# Altium footprint library 2020-03-17_20-39-12.PcbLib: 3 footprints
Each footprint in its own frame and in the unit in brackets; x right, y up, seen from the top. Pads: shape width x height; smd on the part's side, far side on the other; paste and mask are expansions set on the pad; w line width, h text height; cw(c..) or ccw(c..) is an arc to the next point about the centre after c.
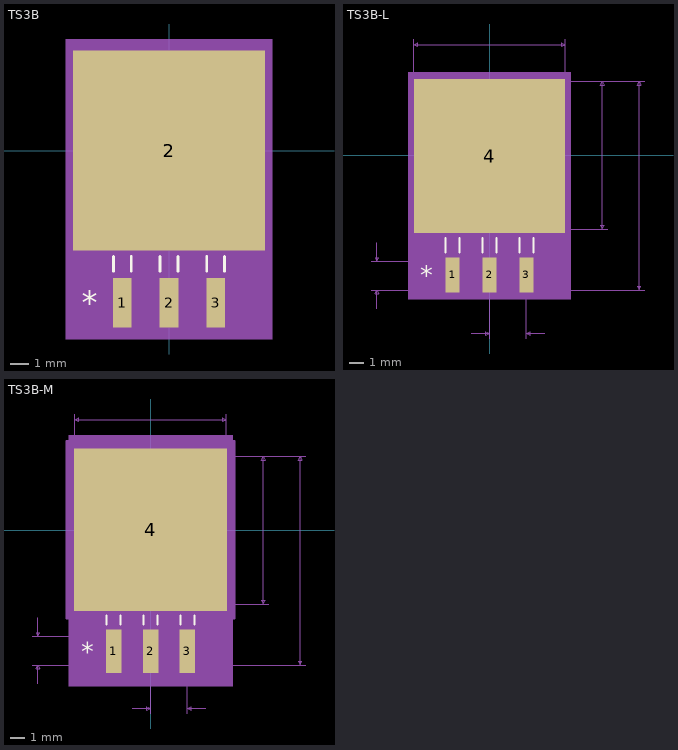
[diagram p0: the footprints below, top view; thin cyan lines are the x and y axes]

## TS3B [mil]
pads (4):
  rect 40x106 smd: 1(-100,-326) 2(0,-326) 3(100,-326)
  rect 412x428 smd: 2(0,0)
Top Overlay:
  lines w6: -119,-259 -119,-227.1 ; -81,-259 -81,-227.1 ; -19,-259 -19,-227.1 ; 19,-259 19,-227.1 ; 81,-259 81,-227.1 ; 119,-259 119,-227.1
  text "*" at -187.5,-351 h50
Mechanical 5:
  region: -221,239 221,239 221,-404 -221,-404
Mechanical 13:
  lines w1: -205,-200 205,-200 205,200 -205,200 -205,-200 ; -119,-365 -119,-200 -81,-200 -81,-365 -119,-365 ; -19,-365 -19,-200 19,-200 19,-365 -19,-365 ; 81,-365 81,-200 119,-200 119,-365 81,-365
  text "*" at -112.5,-215 h50
Mechanical 15:
  region: -130,-224 -216,-224 -216,224 216,224 216,-224 130,-224 130,-389 -130,-389
  lines w6: -216,-224 -216,224 216,224 216,-224 130,-224 130,-389 -130,-389 -130,-224 -216,-224
3D body: height 10, standoff 0, extent 0,0 10,10

## TS3B-L [mil]
pads (4):
  rect 38x94 smd paste+0 mask+0: 1(-100,-324) 2(0,-324) 3(100,-324)
  rect 410x416 smd paste+0 mask+0: 4(0,-2)
Top Overlay:
  lines w6: -119,-263 -119,-224 ; -81,-263 -81,-224 ; -19,-263 -19,-224 ; 19,-263 19,-224 ; 81,-263 81,-224 ; 119,-263 119,-224
  text "*" at -187.5,-349 h50
Mechanical 5:
  region: -220,225 220,225 220,-390 -220,-390
Mechanical 7:
  lines w1: -320,-365 0,-365 420,-365 ; -320,-287 0,-287 ; -305,-415 -305,-365 ; -305,-237 -305,-287 ; -205,0 -205,315 ; -50,-482.5 0,-482.5 ; 0,-497.5 0,-282.5 ; 0,-200 320,-200 ; 100,-497.5 100,-282.5 ; 150,-482.5 100,-482.5 ; 205,0 205,315 ; 320,200 0,200 420,200 ; -305,-365 -310,-375 -300,-375 -305,-365 ; -305,-287 -310,-277 -300,-277 -305,-287 ; -205,300 205,300 ; -205,300 -195,305 -195,295 -205,300 ; 0,-482.5 -10,-477.5 -10,-487.5 0,-482.5 ; 100,-482.5 110,-477.5 110,-487.5 100,-482.5 ; 205,300 195,305 195,295 205,300 ; 305,-200 305,200 ; 305,-200 300,-190 310,-190 305,-200 ; 305,200 300,190 310,190 305,200 ; 405,-365 405,200 ; 405,-365 400,-355 410,-355 405,-365 ; 405,200 400,190 410,190 405,200
  text "Default Padstyle: RX38Y94D0T" at -350,-715 h50
  text "Large Padstyle: RX410Y416D0T" at -350,-790 h50
  text "Alt 1 Padstyle: OX60Y90D30P" at -337.5,-865 h50
  text "Alt 2 Padstyle: OX90Y60D30P" at -337.5,-940 h50
  text "0.4in/10.16mm" at 325,-12.5 h25
  text "0.41in/10.414mm" at -93.75,320 h25
  text "0.565in/14.351mm" at 425,-136.5 h25
  text "0.078in/1.981mm" at -512.5,-338.5 h25
  text "0.1in/2.54mm" at -25,-527.5 h25
Mechanical 13:
  lines w1: -205,-200 205,-200 205,200 -205,200 -205,-200 ; -119,-365 -119,-200 -81,-200 -81,-365 -119,-365 ; -19,-365 -19,-200 19,-200 19,-365 -19,-365 ; 81,-365 81,-200 119,-200 119,-365 81,-365
  text "*" at -112.5,-215 h50
Mechanical 15:
  region: -123,-214 -209,-214 -209,210 209,210 209,-214 123,-214 123,-375 -123,-375
  lines w6: -209,-214 -209,210 209,210 209,-214 123,-214 123,-375 -123,-375 -123,-214 -209,-214
3D body: height 10, standoff 0, extent 0,0 10,10

## TS3B-M [mil]
pads (4):
  rect 42x118 smd paste+0 mask+0: 1(-100,-328) 2(0,-328) 3(100,-328)
  rect 414x440 smd paste+0 mask+0: 4(0,2)
Top Overlay:
  lines w6: -119,-255 -119,-231.1 ; -81,-255 -81,-231.1 ; -19,-255 -19,-231.1 ; 19,-255 19,-231.1 ; 81,-255 81,-231.1 ; 119,-255 119,-231.1
  text "*" at -187.5,-353 h50
Mechanical 5:
  region: -222,257 222,257 222,-422 -222,-422
Mechanical 7:
  lines w1: -320,-365 0,-365 420,-365 ; -320,-287 0,-287 ; -305,-415 -305,-365 ; -305,-237 -305,-287 ; -205,0 -205,315 ; -50,-482.5 0,-482.5 ; 0,-497.5 0,-282.5 ; 0,-200 320,-200 ; 100,-497.5 100,-282.5 ; 150,-482.5 100,-482.5 ; 205,0 205,315 ; 320,200 0,200 420,200 ; -305,-365 -300,-375 -310,-375 -305,-365 ; -305,-287 -300,-277 -310,-277 -305,-287 ; -205,300 -195,295 -195,305 -205,300 ; -205,300 205,300 ; 0,-482.5 -10,-487.5 -10,-477.5 0,-482.5 ; 100,-482.5 110,-487.5 110,-477.5 100,-482.5 ; 205,300 195,295 195,305 205,300 ; 305,-200 310,-190 300,-190 305,-200 ; 305,-200 305,200 ; 305,200 310,190 300,190 305,200 ; 405,-365 410,-355 400,-355 405,-365 ; 405,-365 405,200 ; 405,200 410,190 400,190 405,200
  text "0.1in/2.54mm" at -25,-527.5 h25
  text "0.078in/1.981mm" at -512.5,-338.5 h25
  text "0.565in/14.351mm" at 425,-140.5 h25
  text "0.41in/10.414mm" at -93.75,320 h25
  text "0.4in/10.16mm" at 325,-12.5 h25
  text "Alt 2 Padstyle: OX90Y60D30P" at -337.5,-940 h50
  text "Alt 1 Padstyle: OX60Y90D30P" at -337.5,-865 h50
  text "Large Padstyle: RX414Y440D0T" at -350,-790 h50
  text "Default Padstyle: RX42Y118D0T" at -362.5,-715 h50
Mechanical 13:
  lines w1: -205,-200 -205,200 205,200 205,-200 -205,-200 ; -119,-365 -81,-365 -81,-200 -119,-200 -119,-365 ; -19,-365 19,-365 19,-200 -19,-200 -19,-365 ; 81,-365 119,-365 119,-200 81,-200 81,-365
  text "*" at -112.5,-215 h50
Mechanical 15:
  region: -141,-238 -227,-238 -227,242 227,242 227,-238 141,-238 141,-407 -141,-407
  lines w6: -227,-238 -141,-238 -141,-407 141,-407 141,-238 227,-238 227,242 -227,242 -227,-238
3D body: height 10, standoff 0, extent 0,0 10,10